# EAGLE library part IRF7341 (library ezlib)
Fifth Generation HEXFETs from International Rectifier utilize advanced processing techniques to achieve extremely low on-resistance per silicon area. This benefit, combined with the fast switching speed and ruggedized device design that HEXFET Power MOSFETs are well known for, provides the designer with an extremely efficient and reliable device for use in a wide variety of applications.
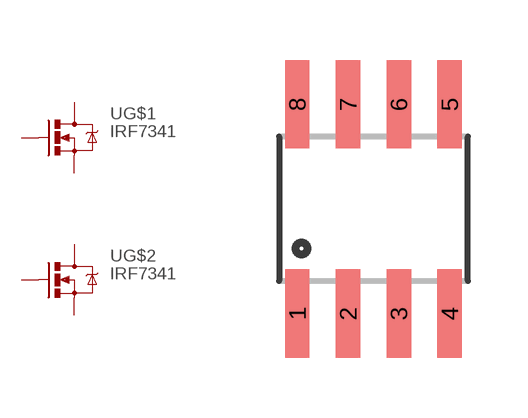
[diagram p0: symbol with the pads of SO-8; footprint SO-8]

Designator prefix -; gates G$1=NMOSFET G$2=NMOSFET

## IRF7341S  [SO-8]
1  G$1:S  pas
2  G$1:G  pas
3  G$2:S  pas
4  G$2:G  pas
5  G$2:D  pas
6  G$2:D  pas
7  G$1:D  pas
8  G$1:D  pas

## Footprint SO-8 (pad centres in mm)
smd 0.61 x 2.21: 1 -1.905,-2.616; 2 -0.635,-2.616; 3 0.635,-2.616; 4 1.905,-2.616; 5 1.905,2.616; 6 0.635,2.616; 7 -0.635,2.616; 8 -1.905,2.616